# EAGLE library part NATHANS-CUSTOM-PARTS_18650_SINGLE_CELL_WITH_CLIPS (library 18650_pack)
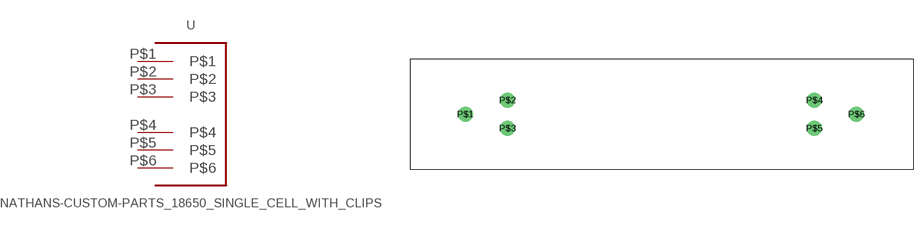
[diagram p0: symbol with the pads of NATHANS-CUSTOM-PARTS_3PINBATTERY_CLIP_1_CELL_18650; footprint NATHANS-CUSTOM-PARTS_3PINBATTERY_CLIP_1_CELL_18650]

Designator prefix -

## NATHANS-CUSTOM-PARTS_18650_SINGLE_CELL_WITH_CLIPS  [NATHANS-CUSTOM-PARTS_3PINBATTERY_CLIP_1_CELL_18650]
P$1  P$1
P$2  P$2
P$3  P$3
P$4  P$4
P$5  P$5
P$6  P$6

## Footprint NATHANS-CUSTOM-PARTS_3PINBATTERY_CLIP_1_CELL_18650 (pad centres in mm)
drill 1.8: P$1 -7.5,0; P$2 0.12,2.54; P$3 0.12,-2.54; P$4 55.62,2.54; P$5 55.62,-2.54; P$6 63.24,0